# Altium footprint library Resistor_SMD.PcbLib: 67 footprints (part 1 of 5)
Each footprint in its own frame and in the unit in brackets; x right, y up, seen from the top. Pads: shape width x height; smd on the part's side, far side on the other; paste and mask are expansions set on the pad; w line width, h text height; cw(c..) or ccw(c..) is an arc to the next point about the centre after c.
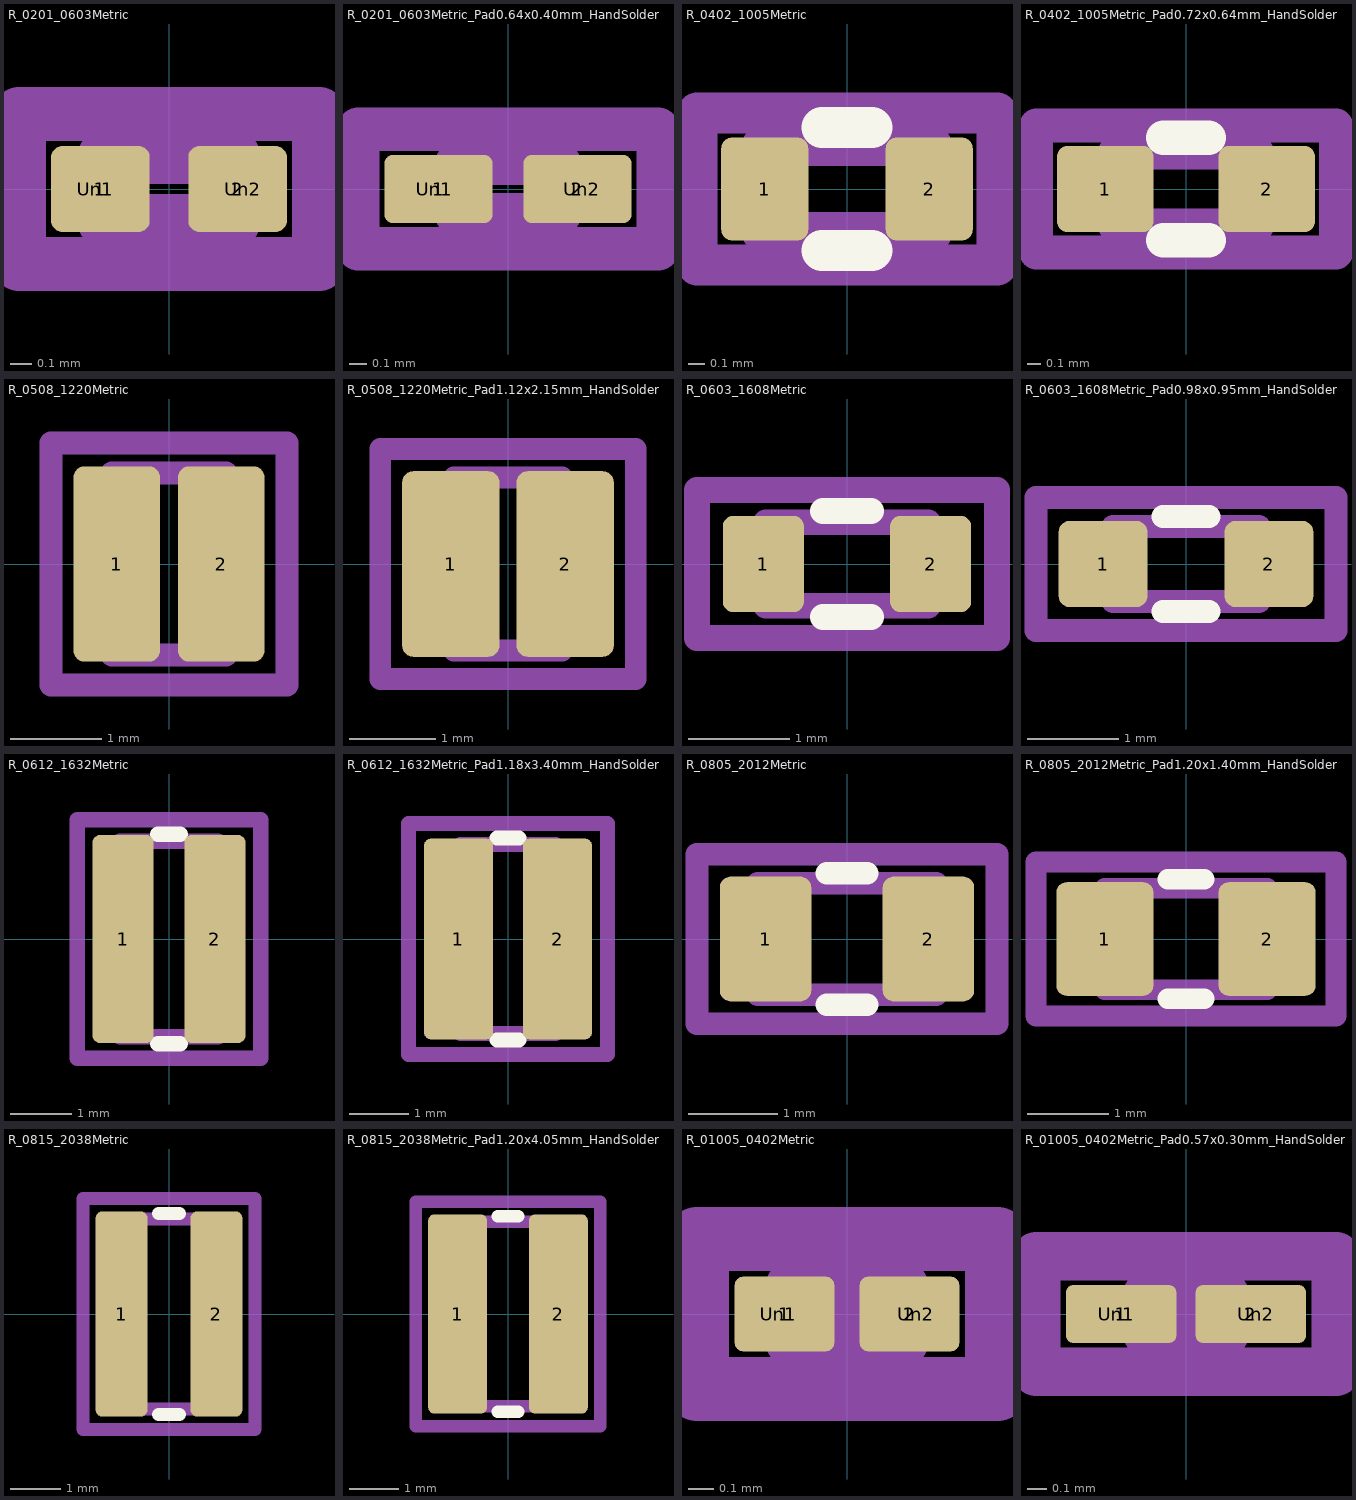
[diagram p0: the footprints below, top view; thin cyan lines are the x and y axes]

## R_0201_0603Metric [mm]
pads (4):
  rrect25% 0.46x0.4 smd: 1(-0.32,0) 2(0.32,0)
  rrect25% 0.318x0.36 on Top Paste: Un1(-0.345,0) Un2(0.345,0)
F.CrtYd:
  lines w0.254: -0.7,-0.35 -0.7,0.35 0.7,0.35 0.7,-0.35 -0.7,-0.35
F.Fab:
  lines w0.254: -0.3,-0.15 -0.3,0.15 0.3,0.15 0.3,-0.15 -0.3,-0.15
  text "'.Designator'" at -1.014,0.467 h0.25

## R_0201_0603Metric_Pad0.64x0.40mm_HandSolder [mm]
pads (4):
  rrect25% 0.635x0.4 smd: 1(-0.407,0) 2(0.407,0)
  rrect25% 0.458x0.36 on Top Paste: Un1(-0.433,0) Un2(0.433,0)
F.CrtYd:
  lines w0.254: -0.88,-0.35 -0.88,0.35 0.88,0.35 0.88,-0.35 -0.88,-0.35
F.Fab:
  lines w0.254: -0.3,-0.15 -0.3,0.15 0.3,0.15 0.3,-0.15 -0.3,-0.15
  text "'.Designator'" at -1.014,0.467 h0.25

## R_0402_1005Metric [mm]
pads (2):
  rrect25% 0.54x0.64 smd: 1(-0.51,0) 2(0.51,0)
F.SilkS:
  lines w0.254: -0.154,-0.38 0.154,-0.38 ; -0.154,0.38 0.154,0.38
F.CrtYd:
  lines w0.254: -0.93,-0.47 -0.93,0.47 0.93,0.47 0.93,-0.47 -0.93,-0.47
F.Fab:
  lines w0.254: -0.525,-0.27 -0.525,0.27 0.525,0.27 0.525,-0.27 -0.525,-0.27
  text "'.Designator'" at -1.053,-0.219 h0.26

## R_0402_1005Metric_Pad0.72x0.64mm_HandSolder [mm]
pads (2):
  rrect25% 0.715x0.64 smd: 1(-0.597,0) 2(0.597,0)
F.SilkS:
  lines w0.254: -0.168,-0.38 0.168,-0.38 ; -0.168,0.38 0.168,0.38
F.CrtYd:
  lines w0.254: -1.11,-0.47 -1.11,0.47 1.11,0.47 1.11,-0.47 -1.11,-0.47
F.Fab:
  lines w0.254: -0.525,-0.27 -0.525,0.27 0.525,0.27 0.525,-0.27 -0.525,-0.27
  text "'.Designator'" at -1.053,-0.219 h0.26

## R_0508_1220Metric [mm]
pads (2):
  rrect25% 0.95x2.15 smd: 1(-0.575,0) 2(0.575,0)
F.CrtYd:
  lines w0.254: -1.3,-1.33 -1.3,1.33 1.3,1.33 1.3,-1.33 -1.3,-1.33
F.Fab:
  lines w0.254: -0.625,-1 -0.625,1 0.625,1 0.625,-1 -0.625,-1
  text "'.Designator'" at -1.258,-0.264 h0.31

## R_0508_1220Metric_Pad1.12x2.15mm_HandSolder [mm]
pads (2):
  rrect22% 1.125x2.15 smd: 1(-0.663,0) 2(0.663,0)
F.CrtYd:
  lines w0.254: -1.48,-1.33 -1.48,1.33 1.48,1.33 1.48,-1.33 -1.48,-1.33
F.Fab:
  lines w0.254: -0.625,-1 -0.625,1 0.625,1 0.625,-1 -0.625,-1
  text "'.Designator'" at -1.258,-0.264 h0.31

## R_0603_1608Metric [mm]
pads (2):
  rrect25% 0.8x0.95 smd: 1(-0.825,0) 2(0.825,0)
F.SilkS:
  lines w0.254: -0.237,-0.523 0.237,-0.523 ; -0.237,0.523 0.237,0.523
F.CrtYd:
  lines w0.254: -1.48,-0.73 -1.48,0.73 1.48,0.73 1.48,-0.73 -1.48,-0.73
F.Fab:
  lines w0.254: -0.8,-0.413 -0.8,0.413 0.8,0.413 0.8,-0.413 -0.8,-0.413
  text "'.Designator'" at -1.619,-0.336 h0.4

## R_0603_1608Metric_Pad0.98x0.95mm_HandSolder [mm]
pads (2):
  rrect25% 0.975x0.95 smd: 1(-0.913,0) 2(0.913,0)
F.SilkS:
  lines w0.254: -0.255,-0.523 0.255,-0.523 ; -0.255,0.523 0.255,0.523
F.CrtYd:
  lines w0.254: -1.65,-0.73 -1.65,0.73 1.65,0.73 1.65,-0.73 -1.65,-0.73
F.Fab:
  lines w0.254: -0.8,-0.413 -0.8,0.413 0.8,0.413 0.8,-0.413 -0.8,-0.413
  text "'.Designator'" at -1.619,-0.336 h0.4

## R_0612_1632Metric [mm]
pads (2):
  rrect25% 1x3.4 smd: 1(-0.75,0) 2(0.75,0)
F.SilkS:
  lines w0.254: -0.183,-1.71 0.183,-1.71 ; -0.183,1.71 0.183,1.71
F.CrtYd:
  lines w0.254: -1.5,-1.95 -1.5,1.95 1.5,1.95 1.5,-1.95 -1.5,-1.95
F.Fab:
  lines w0.254: -0.8,-1.6 -0.8,1.6 0.8,1.6 0.8,-1.6 -0.8,-1.6
  text "'.Designator'" at -1.619,-0.336 h0.4

## R_0612_1632Metric_Pad1.18x3.40mm_HandSolder [mm]
pads (2):
  rrect21% 1.175x3.4 smd: 1(-0.837,0) 2(0.837,0)
F.SilkS:
  lines w0.254: -0.183,-1.71 0.183,-1.71 ; -0.183,1.71 0.183,1.71
F.CrtYd:
  lines w0.254: -1.68,-1.95 -1.68,1.95 1.68,1.95 1.68,-1.95 -1.68,-1.95
F.Fab:
  lines w0.254: -0.8,-1.6 -0.8,1.6 0.8,1.6 0.8,-1.6 -0.8,-1.6
  text "'.Designator'" at -1.619,-0.336 h0.4

## R_0805_2012Metric [mm]
pads (2):
  rrect24% 1.025x1.4 smd: 1(-0.913,0) 2(0.913,0)
F.SilkS:
  lines w0.254: -0.227,-0.735 0.227,-0.735 ; -0.227,0.735 0.227,0.735
F.CrtYd:
  lines w0.254: -1.68,-0.95 -1.68,0.95 1.68,0.95 1.68,-0.95 -1.68,-0.95
F.Fab:
  lines w0.254: -1,-0.625 -1,0.625 1,0.625 1,-0.625 -1,-0.625
  text "'.Designator'" at -2.028,-0.425 h0.5

## R_0805_2012Metric_Pad1.20x1.40mm_HandSolder [mm]
pads (2):
  rrect21% 1.2x1.4 smd: 1(-1,0) 2(1,0)
F.SilkS:
  lines w0.254: -0.227,-0.735 0.227,-0.735 ; -0.227,0.735 0.227,0.735
F.CrtYd:
  lines w0.254: -1.85,-0.95 -1.85,0.95 1.85,0.95 1.85,-0.95 -1.85,-0.95
F.Fab:
  lines w0.254: -1,-0.625 -1,0.625 1,0.625 1,-0.625 -1,-0.625
  text "'.Designator'" at -2.028,-0.425 h0.5

## R_0815_2038Metric [mm]
pads (2):
  rrect24% 1.025x4.05 smd: 1(-0.937,0) 2(0.937,0)
F.SilkS:
  lines w0.254: -0.21,-1.985 0.21,-1.985 ; -0.21,1.985 0.21,1.985
F.CrtYd:
  lines w0.254: -1.7,-2.28 -1.7,2.28 1.7,2.28 1.7,-2.28 -1.7,-2.28
F.Fab:
  lines w0.254: -1,-1.875 -1,1.875 1,1.875 1,-1.875 -1,-1.875
  text "'.Designator'" at -2.028,-0.425 h0.5

## R_0815_2038Metric_Pad1.20x4.05mm_HandSolder [mm]
pads (2):
  rrect21% 1.2x4.05 smd: 1(-1.025,0) 2(1.025,0)
F.SilkS:
  lines w0.254: -0.21,-1.985 0.21,-1.985 ; -0.21,1.985 0.21,1.985
F.CrtYd:
  lines w0.254: -1.88,-2.28 -1.88,2.28 1.88,2.28 1.88,-2.28 -1.88,-2.28
F.Fab:
  lines w0.254: -1,-1.875 -1,1.875 1,1.875 1,-1.875 -1,-1.875
  text "'.Designator'" at -2.028,-0.425 h0.5

## R_01005_0402Metric [mm]
pads (4):
  rrect25% 0.4x0.3 smd: 1(-0.25,0) 2(0.25,0)
  rrect25% 0.27x0.27 on Top Paste: Un1(-0.275,0) Un2(0.275,0)
F.CrtYd:
  lines w0.254: -0.6,-0.3 -0.6,0.3 0.6,0.3 0.6,-0.3 -0.6,-0.3
F.Fab:
  lines w0.254: -0.2,-0.1 -0.2,0.1 0.2,0.1 0.2,-0.1 -0.2,-0.1
  text "'.Designator'" at -1.014,0.407 h0.25

## R_01005_0402Metric_Pad0.57x0.30mm_HandSolder [mm]
pads (4):
  rrect25% 0.575x0.3 smd: 1(-0.337,0) 2(0.337,0)
  rrect25% 0.41x0.27 on Top Paste: Un1(-0.363,0) Un2(0.363,0)
F.CrtYd:
  lines w0.254: -0.78,-0.3 -0.78,0.3 0.78,0.3 0.78,-0.3 -0.78,-0.3
F.Fab:
  lines w0.254: -0.2,-0.1 -0.2,0.1 0.2,0.1 0.2,-0.1 -0.2,-0.1
  text "'.Designator'" at -1.014,0.407 h0.25